# Altium schematic symbol library Driver.SchLib: 4 symbols
Pins are listed as number, name and electrical type; pins without a type are passive.

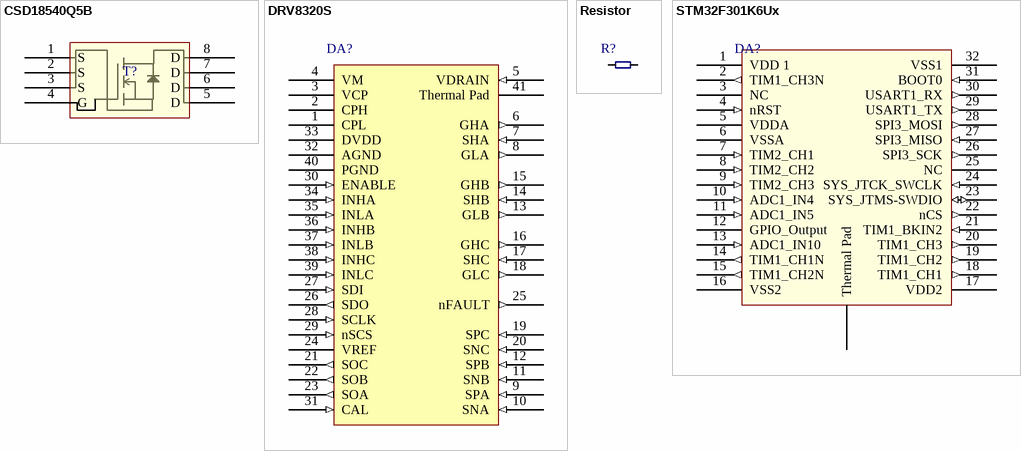
[diagram p0: symbols CSD18540Q5B to STM32F301K6Ux]

## CSD18540Q5B
designator T?  (value not drawn)
footprint CSD18540Q5B (60V, N-Channel NexFET™ Power MOSFET)
pins: 1 S, 2 S, 3 S, 4 G, 5 D, 6 D, 7 D, 8 D

## DRV8320S
designator DA?  (value not drawn)
footprint DRV8323S (6 to 60-V Three-Phase Smart Gate Driver)
pins: 1 CPL (power) "Charge pump switching node. Connect a X5R or X7R, 47-nF, VM-rated ceramic capacitor between the CPH and CPL pins.", 2 CPH (power) "Charge pump switching node. Connect a X5R or X7R, 47-nF, VM-rated ceramic capacitor between the CPH and CPL pins", 3 VCP (power) "Charge pump output. Connect a X5R or X7R, 1-µF, 16-V ceramic capacitor between the VCP and VM pins.", 4 VM (power) "Gate driver power supply input. Connect to the bridge power supply. Connect a X5R or X7R, 0.1-µF, VM-rated ceramic and greater then or equal to 10-uF local capacitance between the VM and PGND pins.", 5 VDRAIN (in) "High-side MOSFET drain sense input. Connect to the common point of the MOSFET drains.", 6 GHA (out) "High-side gate driver output. Connect to the gate of the high-side power MOSFET.", 7 SHA (in) "High-side source sense input. Connect to the high-side power MOSFET source", 8 GLA (out) "Low-side gate driver output. Connect to the gate of the low-side power MOSFET.", 9 SPA (in) "Low-side source sense and shunt amplifier input. Connect to the low-side power MOSFET source and high-side of the current shunt resistor.", 10 SNA (in) "Shunt amplifier input. Connect to the low-side of the current shunt resistor.", 11 SNB (in) "Shunt amplifier input. Connect to the low-side of the current shunt resistor.", 12 SPB (in) "Low-side source sense and shunt amplifier input. Connect to the low-side power MOSFET source and high-side of the current shunt resistor.", 13 GLB (out) "Low-side gate driver output. Connect to the gate of the low-side power MOSFET.", 14 SHB (in) "High-side source sense input. Connect to the high-side power MOSFET source", 15 GHB (out) "High-side gate driver output. Connect to the gate of the high-side power MOSFET.", 16 GHC (out) "High-side gate driver output. Connect to the gate of the high-side power MOSFET.", 17 SHC (in) "High-side source sense input. Connect to the high-side power MOSFET source", 18 GLC (out) "Low-side gate driver output. Connect to the gate of the low-side power MOSFET.", 19 SPC (in) "Low-side source sense and shunt amplifier input. Connect to the low-side power MOSFET source and high-side of the current shunt resistor.", 20 SNC (in) "Shunt amplifier input. Connect to the low-side of the current shunt resistor.", 21 SOC (out) "Shunt amplifier output.", 22 SOB (out) "Shunt amplifier output.", 23 SOA (out) "Shunt amplifier output.", 24 VREF (power) "Shunt amplifier power supply input and reference. Connect a X5R or X7R, 0.1-µF, 6.3-V ceramic capacitor between the VREF and AGND pins.", 25 nFAULT (out) "Fault indicator output. This pin is pulled logic low during a fault condition and requires an external pullup resistor.", 26 SDO (out) "Serial data output. Data is shifted out on the rising edge of the SCLK pin. This pin requires an external pullup resistor", 27 SDI (in) "Serial data input. Data is captured on the falling edge of the SCLK pin.", 28 SCLK (in) "Serial clock input. Serial data is shifted out and captured on the corresponding rising and falling edge on this pin.", 29 nSCS (in) "Serial chip select. A logic low on this pin enables serial interface communication.", 30 ENABLE (in) "Gate driver enable. When this pin is logic low the device enters a low power sleep mode. An 8 to 40-µs low pulse can be used to reset fault conditions.", 31 CAL (in) "Amplifier calibration input. Set logic high to internally short amplifier inputs and perform auto offset calibration.", 32 AGND (power) "Device analog ground. Connect to system ground", 33 DVDD (power) "3.3-V internal regulator output. Connect a X5R or X7R, 1-µF, 6.3-V ceramic capacitor between the DVDD and AGND pins. This regulator can source up to 30 mA externally.", 34 INHA (in) "Gate drive output current setting. This pin is a 7 level input pin set by an external resistor.  INHA 34 34 I High-side gate driver control input. This pin controls the output of the high-side gate driver.", 35 INLA (in) "Low-side gate driver control input. This pin controls the output of the low-side gate driver.", 36 INHB (in) "High-side gate driver control input. This pin controls the output of the high-side gate driver.", 37 INLB (in) "Low-side gate driver control input. This pin controls the output of the low-side gate driver.", 38 INHC (in) "High-side gate driver control input. This pin controls the output of the high-side gate driver.", 39 INLC (in) "Low-side gate driver control input. This pin controls the output of the low-side gate driver.", 40 PGND (power) "Device power ground. Connect to system ground", 41 Thermal Pad (power)

## Resistor
designator R?, comment CRE2512-FZ-R003E-3  (value not drawn)
High Power Current Sense Chip Resistor
footprint CRE2512-FZ-R003E-3 (High Power Current Sense Chip Resistor)
pins: 1, 2

## STM32F301K6Ux
designator DA?  (value not drawn)
footprint STM32F301K6Ux (Mainstream Mixed signals MCUs ARM Cortex-M4 core with DSP and FPU, 64 Kbytes Flash, 72 MHz CPU, 12-bit ADC 5 MSPS, Comparator, Op-Amp)
pins: 1 VDD 1 (power), 2 TIM1_CH3N (out), 3 NC (hiz), 4 nRST (in), 5 VDDA (power), 6 VSSA (power), 7 TIM2_CH1 (in), 8 TIM2_CH2 (in), 9 TIM2_CH3 (in), 10 ADC1_IN4 (in), 11 ADC1_IN5 (in), 12 GPIO_Output, 13 ADC1_IN10 (in), 14 TIM1_CH1N (out), 15 TIM1_CH2N (out), 16 VSS2 (power), 17 VDD2 (power), 18 TIM1_CH1 (out), 19 TIM1_CH2 (out), 20 TIM1_CH3 (out), 21 TIM1_BKIN2 (in), 22 nCS (out), 23 SYS_JTMS-SWDIO (io), 24 SYS_JTCK_SWCLK (in), 25 NC (hiz), 26 SPI3_SCK (out), 27 SPI3_MISO (in), 28 SPI3_MOSI (out), 29 USART1_TX (out), 30 USART1_RX (out), 31 BOOT0 (in), 32 VSS1 (power), 33 Thermal Pad (power)